# Altium schematic symbol library FT230X.Schlib: 1 symbol
Pins are listed as number, name and electrical type; pins without a type are passive.

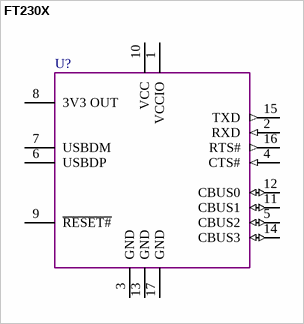
[diagram p0: symbol FT230X]

## FT230X
designator U?  (value not drawn)
pins: 1 VCCIO (power), 2 RXD (in), 3 GND (power), 4 CTS# (in), 5 CBUS2 (io), 6 USBDP, 7 USBDM, 8 3V3 OUT (power), 9 ~{RESET#}, 10 VCC (power), 11 CBUS1 (io), 12 CBUS0 (io), 13 GND (power), 14 CBUS3 (io), 15 TXD (out), 16 RTS# (out), 17 GND (power)